# Altium footprint library adafruit.PCBLIB: 624 footprints (part 38 of 39)
Each footprint in its own frame and in the unit in brackets; x right, y up, seen from the top. Pads: shape width x height; smd on the part's side, far side on the other; paste and mask are expansions set on the pad; w line width, h text height; cw(c..) or ccw(c..) is an arc to the next point about the centre after c.
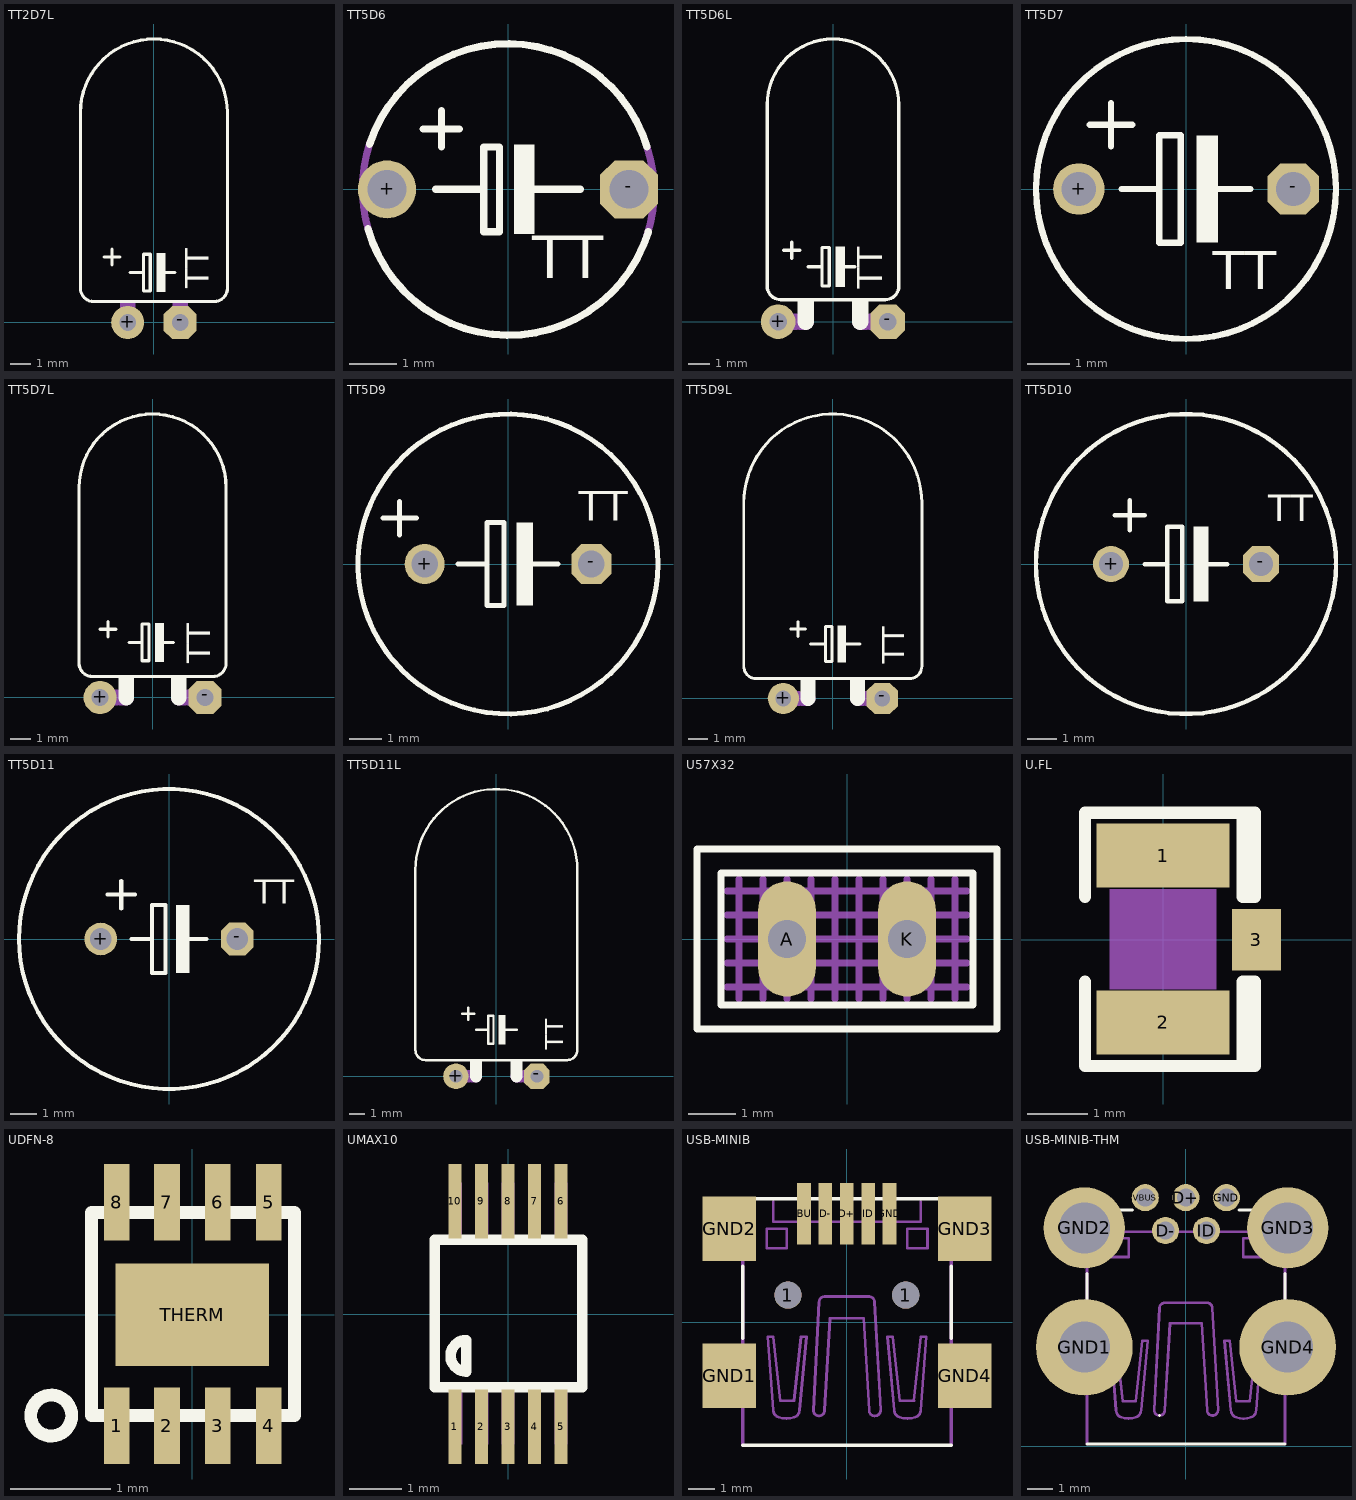
[diagram p37: the footprints below, top view; thin cyan lines are the x and y axes]

## TT2D7L [mil]
pads (2):
  round 63 hole 32: +(-50,0)
  oct 63x63 hole 32: -(50,0)
Top Overlay:
  rectangle: 5,58 22,132
  lines w6: -95,125 -65,125 ; -80,110 -80,140 ; -45,95 -20,95 ; 20,95 40,95 ; -20,95 -20,60 -7,60 -7,130 -20,130 -20,95 ; -140,65 ccw(c-115,65) -115,40 115,40 ccw(c115,65) 140,65 140,400 ccw(c0,400) -140,400 -140,65
  text "TT" at 120,65 h77.5
Mechanical 16:
  rectangle: -65,25 -35,40
  rectangle: 35,25 65,40
  rectangle: 35,-5 65,25
  rectangle: -65,-5 -35,25

## TT5D6 [mil]
pads (2):
  round 48 hole 32: +(-100,0)
  oct 48x48 hole 32: -(100,0)
Top Overlay:
  rectangle: 5,-37 22,37
  lines w6: -115.76,-32.41 ccw(c0.5,0.15) 116,-35 ; -114.49,37 cw(c-0.06,0.18) 115,35 ; -70,50 -40,50 ; -60,0 -20,0 ; -55,35 -55,65 ; 20,0 60,0 ; -20,0 -20,-35 -7,-35 -7,35 -20,35 -20,0
  text "TT" at 20,-85 h60.45
Mechanical 16:
  lines w6: -115,-35 cw(c1.55,0.49) -114.04,39 ; 115,-38.01 ccw(c0.48,-1.51) 115,35

## TT5D6L [mil]
pads (2):
  round 63 hole 32: +(-100,0)
  oct 63x63 hole 32: -(100,0)
Top Overlay:
  rectangle: -65,25 -35,40
  rectangle: 35,25 65,40
  rectangle: 5,63 22,137
  lines w6: -90,130 -60,130 ; -75,115 -75,145 ; -45,100 -20,100 ; 20,100 40,100 ; -20,100 -20,65 -7,65 -7,135 -20,135 -20,100 ; -120,65 -120,395 cw(c0,395) 120,395 120,65 cw(c95,65) 95,40 -95,40 cw(c-95,65) -120,65
  lines w30: -50,0 -50,25 ; 50,0 50,25
  text "TT" at 105,60 h77.5
Mechanical 16:
  rectangle: 65,-15 100,15
  rectangle: -100,-15 -65,15
  lines w30: -60,0 -50,0 ; 50,0 60,0

## TT5D7 [mil]
pads (2):
  round 48 hole 32: +(-100,0)
  oct 48x48 hole 32: -(100,0)
Top Overlay:
  circle w6: c0,0 r140
  rectangle: 10,-50 30,50
  lines w6: -90,60 -50,60 ; -70,40 -70,80 ; -60,0 -25,0 ; 25,0 60,0 ; -25,0 -25,-50 -5,-50 -5,50 -25,50 -25,0
  text "TT" at 25,-105 h60.45

## TT5D7L [mil]
pads (2):
  round 63 hole 32: +(-100,0)
  oct 63x63 hole 32: -(100,0)
Top Overlay:
  rectangle: -65,25 -35,40
  rectangle: 35,25 65,40
  rectangle: 5,68 22,142
  lines w6: -100,130 -70,130 ; -85,115 -85,145 ; -45,105 -20,105 ; 20,105 40,105 ; -20,105 -20,70 -7,70 -7,140 -20,140 -20,105 ; -140,65 -140,400 cw(c0,400) 140,400 140,65 cw(c115,65) 115,40 -115,40 cw(c-115,65) -140,65
  lines w30: -50,0 -50,25 ; 50,0 50,25
  text "TT" at 125,65 h77.5
Mechanical 16:
  rectangle: 65,-15 100,15
  rectangle: -100,-15 -65,15
  lines w30: -60,0 -50,0 ; 50,0 60,0

## TT5D9 [mil]
pads (2):
  round 48 hole 32: +(-100,0)
  oct 48x48 hole 32: -(100,0)
Top Overlay:
  circle w6: c0,0 r180
  rectangle: 10,-50 30,50
  lines w6: -150,55 -110,55 ; -130,35 -130,75 ; -60,0 -25,0 ; 25,0 60,0 ; -25,0 -25,-50 -5,-50 -5,50 -25,50 -25,0
  text "TT" at 85,40 h60.45

## TT5D9L [mil]
pads (2):
  round 63 hole 32: +(-100,0)
  oct 63x63 hole 32: -(100,0)
Top Overlay:
  rectangle: -65,25 -35,40
  rectangle: 35,25 65,40
  rectangle: 10,73 27,147
  lines w6: -85,140 -55,140 ; -70,125 -70,155 ; -45,110 -15,110 ; 25,110 55,110 ; -15,110 -15,75 -2,75 -2,145 -15,145 -15,110 ; -180,65 -180,395 cw(c0,395) 180,395 180,65 cw(c155,65) 155,40 -155,40 cw(c-155,65) -180,65
  lines w30: -50,0 -50,25 ; 50,0 50,25
  text "TT" at 160,70 h77.5
Mechanical 16:
  rectangle: 65,-15 100,15
  rectangle: -100,-15 -65,15
  lines w30: -60,0 -50,0 ; 50,0 60,0

## TT5D10 [mil]
pads (2):
  round 48 hole 32: +(-100,0)
  oct 48x48 hole 32: -(100,0)
Top Overlay:
  circle w6: c0,0 r200
  rectangle: 10,-50 30,50
  lines w6: -95,65 -55,65 ; -75,45 -75,85 ; -55,0 -25,0 ; 25,0 55,0 ; -25,0 -25,-50 -5,-50 -5,50 -25,50 -25,0
  text "TT" at 110,45 h60.45

## TT5D11 [mil]
pads (2):
  round 48 hole 32: +(-100,0)
  oct 48x48 hole 32: -(100,0)
Top Overlay:
  circle w6: c0,0 r220
  rectangle: 10,-50 30,50
  lines w6: -90,65 -50,65 ; -70,45 -70,85 ; -55,0 -25,0 ; 25,0 55,0 ; -25,0 -25,-50 -5,-50 -5,50 -25,50 -25,0
  text "TT" at 125,40 h60.45

## TT5D11L [mil]
pads (2):
  round 63 hole 32: +(-100,0)
  oct 63x63 hole 32: -(100,0)
Top Overlay:
  rectangle: -65,25 -35,40
  rectangle: 35,25 65,40
  rectangle: 5,78 22,152
  lines w6: -85,155 -55,155 ; -70,140 -70,170 ; -50,115 -20,115 ; 20,115 50,115 ; -20,115 -20,80 -7,80 -7,150 -20,150 -20,115 ; -200,65 -200,510 cw(c0,510) 200,510 200,65 cw(c175,65) 175,40 -175,40 cw(c-175,65) -200,65
  lines w30: -50,0 -50,25 ; 50,0 50,25
  text "TT" at 180,65 h77.5
Mechanical 16:
  rectangle: 65,-15 100,15
  rectangle: -100,-15 -65,15
  lines w30: -60,0 -50,0 ; 50,0 60,0

## U57X32 [mil]
pads (2):
  oval 48x96 hole 32: A(-50,0) K(50,0)
Top Overlay:
  lines w6: -125,-75 125,-75 125,75 -125,75 -125,-75 ; -105,-55 105,-55 105,55 -105,55 -105,-55
Mechanical 16:
  lines w6: -100,-40 100,-40 ; -100,-20 100,-20 ; -100,0 100,0 ; -100,20 100,20 ; -100,40 100,40 ; -90,-50 -90,50 ; -70,-50 -70,50 ; -50,-50 -50,50 ; -30,-50 -30,50 ; -10,-50 -10,50 ; 10,-50 10,50 ; 30,-50 30,50 ; 50,-50 50,50 ; 70,-50 70,50 ; 90,-50 90,50

## U.FL [mil]
pads (3):
  rect 87x42 smd: 1(0,55) 2(0,-54.13)
  rect 32x40 smd: 3(61,0)
Top Overlay:
  lines w8: -51.18,-27.56 -51.18,-82.68 52,-82.68 ; -51.18,28 -51.18,83 52,83 ; 56,-78.74 56,-27.56 ; 56,28 56,79 ; 52,-82.68 52,-27.56 60,-27.56 60,-82.68 52,-82.68 ; 52,83 52,28 60,28 60,83 52,83
Mechanical 8:
  rectangle: -35,-32.5 35,33

## UDFN-8 [mil]
pads (9):
  rect 10x30 smd: 1(-29.53,-43.31) 2(-9.84,-43.31) 3(10,-43.31) 4(30,-43.31) 5(30,44) 6(10,44) 7(-9.84,44) 8(-29.53,44)
  rect 60x40 smd: THERM(0,0)
Top Overlay:
  circle w5: c-55.12,-39.37 r8
  lines w5: -39.37,-39.37 40,-39.37 40,40 -39.37,40 -39.37,-39.37
Top Paste:
  region: 0,0 10,0 10,10 0,10
  region: 0,0 10,0 10,10 0,10
  region: 0,0 10,0 10,10 0,10
  region: 0,0 10,0 10,10 0,10
Top Solder:
  region: 0,0 10,0 10,10 0,10

## UMAX10 [mil]
pads (10):
  rect 10x56 smd: 1(-40,-85) 2(-20,-85) 3(0,-85) 4(20,-85) 5(40,-85) 6(40,85) 7(20,85) 8(0,85) 9(-20,85) 10(-40,85)
Top Overlay:
  lines w8: -55.12,-55.12 56,-55.12 56,56 -55.12,56 -55.12,-55.12 ; -31.5,-43.31 cw(c-31.5,-31.5) -31.5,-19.68 -31.5,-43.31
Mechanical 16:
  rectangle: -44.27,-98.43 -34.43,-59.06
  rectangle: -24.58,-98.43 -14.74,-59.06
  rectangle: -4.9,-98.43 5,-59.06
  rectangle: 15,-98.43 25,-59.06
  rectangle: 35,-98.43 45,-59.06
  region: 45,99 35,99 35,60 45,60
  region: 25,99 15,99 15,60 25,60
  region: 5,99 -4.94,99 -4.94,60 5,60
  region: -14.79,99 -24.63,99 -24.63,60 -14.79,60
  region: -34.47,99 -44.31,99 -44.31,60 -34.47,60

## USB-MINIB [mil]
pads (11):
  round 40 hole 40: 1(-86.61,40) 1(87,40)
  rect 20x91 smd: D+(0,160) D-(-31.5,160) GND(63,160) ID(32,160) VBUS(-62.99,160)
  rect 79x95 smd: GND1(-173.23,-78.74) GND2(-173.23,138) GND3(174,138) GND4(174,-78.74)
Top Overlay:
  lines w5: -153.54,-181.1 154,-181.1 ; -153.54,-23.62 -153.54,83 ; -153.54,182 154,182 ; -125.98,182 -82.68,182 ; 83,182 126,182 ; 154,-23.62 154,83
Mechanical 16:
  lines w4: -200,-105.12 -200,-91.34 ccw(c-200,-79.53) -200,-67.72 -200,-51.97 ; -200,113 -200,127 ccw(c-200,139) -200,151 -200,167 ; -199.21,-105.49 -153.94,-105.49 ; -199.21,-51.21 -153.94,-51.21 ; -199.21,113 -153.94,113 ; -199.21,167 -153.94,167 ; -108.27,178 -108.27,148 109,148 109,178 ; -40.88,-138.04 cw(c-40.88,-129.86) -49.05,-129.86 -40.88,30 cw(c-32.33,29.44) -32.7,38 33,38 cw(c32.54,29.54) 41,30 50,-129.86 cw(c41.41,-129.45) 41,-138.04 cw(c41.09,-129.95) 33,-129.86 25,6 -24.54,6 -32.7,-129.86 cw(c-40.87,-129.86) -40.87,-138.04 ; 153,-104.69 199,-104.69 ; 153,-50.42 199,-50.42 ; 153,114 199,114 ; 153,168 199,168 199,154 ccw(c199,142) 199,130 199,115 ; 199,-103.94 199,-88.19 cw(c199,-76.38) 199,-64.57 199,-50.79 ; -118.11,109 -88.58,109 -88.58,138 -118.11,138 -118.11,109 ; -116.5,-21.54 -108.32,-129.86 ccw(c-96.75,-128.98) -100.15,-140.08 ccw(c-88.91,-103.42) -77.67,-140.08 ccw(c-81.06,-128.98) -69.49,-129.86 -59.27,-21.54 -67.45,-21.54 -77.67,-115.56 -98.11,-115.56 -108.32,-21.54 -116.5,-21.54 ; 60,-21.54 70,-129.86 ccw(c81.48,-129.11) 78,-140.08 ccw(c89.5,-102.58) 101,-140.08 ccw(c97.52,-129.11) 109,-129.86 117,-21.54 109,-21.54 99,-115.56 78,-115.56 68,-21.54 60,-21.54 ; 89,109 89,138 119,138 119,109 89,109
  lines w5: -153.54,-181.1 -153.54,-106.3 ; -153.54,-50.79 -153.54,111 ; -153.54,168 -153.54,182 ; 154,-181.1 154,-106.3 ; 154,-48.82 154,113 ; 154,170 154,182

## USB-MINIB-THM [mil]
pads (9):
  round 42 hole 28: D+(0,386) D-(-31.5,335) GND(63,386) ID(32,335) VBUS(-62.99,386)
  round 150 hole 79: GND1(-157.48,154) GND4(158,154)
  round 126 hole 79: GND2(-157.48,339) GND3(158,339)
Top Overlay:
  lines w4: -40.88,48 -40.87,48
  lines w5: -153.54,4 154,4 ; -153.54,162 -153.54,268 ; -125.98,367 -82.68,367 ; 83,367 126,367 ; 154,186 154,268
Mechanical 16:
  lines w4: -200,128 -200,141 ccw(c-200,153) -200,165 -200,181 ; -200,299 -200,312 ccw(c-200,324) -200,336 -200,352 ; -199.21,127 -153.94,127 ; -199.21,182 -153.94,182 ; -199.21,298 -153.94,298 ; -199.21,352 -153.94,352 ; -108.27,363 -108.27,333 109,333 109,363 ; -40.88,48 cw(c-40.96,56.09) -49.05,56 -40.88,215 cw(c-32.33,214.44) -32.7,223 33,223 cw(c32.54,214.54) 41,215 50,56 cw(c41.5,56.5) 41,48 cw(c41,56) 33,56 25,191 -24.54,191 -32.7,56 cw(c-40.79,56.09) -40.87,48 ; 153,128 199,128 ; 153,182 199,182 199,168 ccw(c199,156.5) 199,145 199,129 ; 153,299 199,299 ; 153,353 199,353 199,339 ccw(c199,327) 199,315 199,300 ; -118.11,294 -88.58,294 -88.58,323 -118.11,323 -118.11,294 ; -116.5,164 -108.32,56 ccw(c-96.18,56.49) -100.15,45 ccw(c-88.91,81.66) -77.67,45 ccw(c-81.64,56.49) -69.49,56 -59.27,164 -67.45,164 -77.67,70 -98.11,70 -108.32,164 -116.5,164 ; 60,164 70,56 ccw(c82.06,56.36) 78,45 ccw(c89.5,82.5) 101,45 ccw(c96.94,56.36) 109,56 117,164 109,164 99,70 78,70 68,164 60,164 ; 89,294 89,323 119,323 119,294 89,294
  lines w5: -153.54,4 -153.54,126 ; -153.54,182 -153.54,296 ; -153.54,353 -153.54,367 ; 154,4 154,126 ; 154,184 154,298 ; 154,355 154,367